# EAGLE library part 2X3 (library mike-temp)
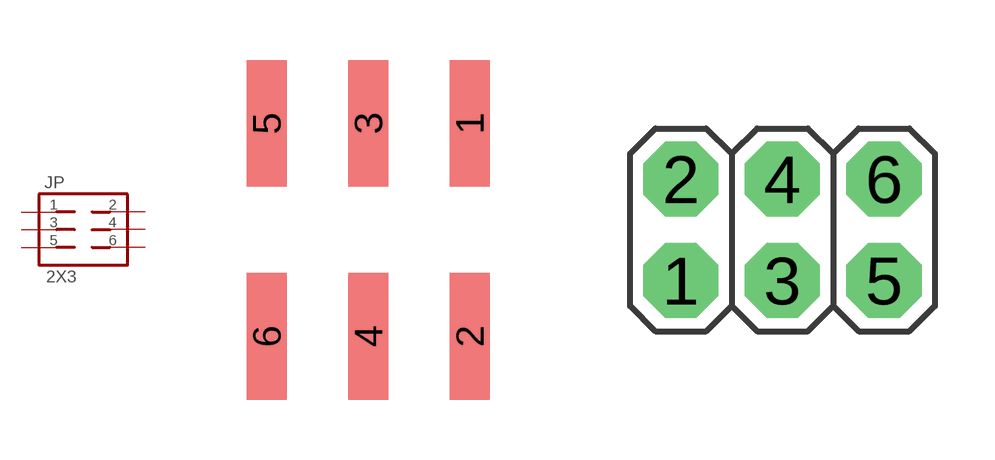
[diagram p30: symbol with the pads of 2X3SMT; footprints 2X3SMT, 2X03]

Designator prefix JP

## 2X3SMT  [2X3SMT]
1  1  pas
2  2  pas
3  3  pas
4  4  pas
5  5  pas
6  6  pas

## 2X3PTH  [2X03]
Pads as for 2X3SMT

## 2X3NS  [2X3NS]
Pads as for 2X3SMT

## Footprint 2X3SMT (pad centres in mm)
smd 1 x 3.17: 1 2.54,2.665; 2 2.54,-2.665; 3 0,2.665; 4 0,-2.665; 5 -2.54,2.665; 6 -2.54,-2.665

## Footprint 2X03 (pad centres in mm)
PIN HEADER
drill 1.016 pad 1.88 octagon: 1 -2.54,-1.27; 2 -2.54,1.27; 3 0,-1.27; 4 0,1.27; 5 2.54,-1.27; 6 2.54,1.27

## Footprint 2X3NS (pad centres in mm)
drill 1.016 pad 1.88 square: 1 0,0
drill 1.016 pad 1.88 octagon: 2 0,2.54; 3 2.54,0; 4 2.54,2.54; 5 5.08,0; 6 5.08,2.54